# Altium footprint library Smd.PcbLib: 15 footprints
Each footprint in its own frame and in the unit in brackets; x right, y up, seen from the top. Pads: shape width x height; smd on the part's side, far side on the other; paste and mask are expansions set on the pad; w line width, h text height; cw(c..) or ccw(c..) is an arc to the next point about the centre after c.
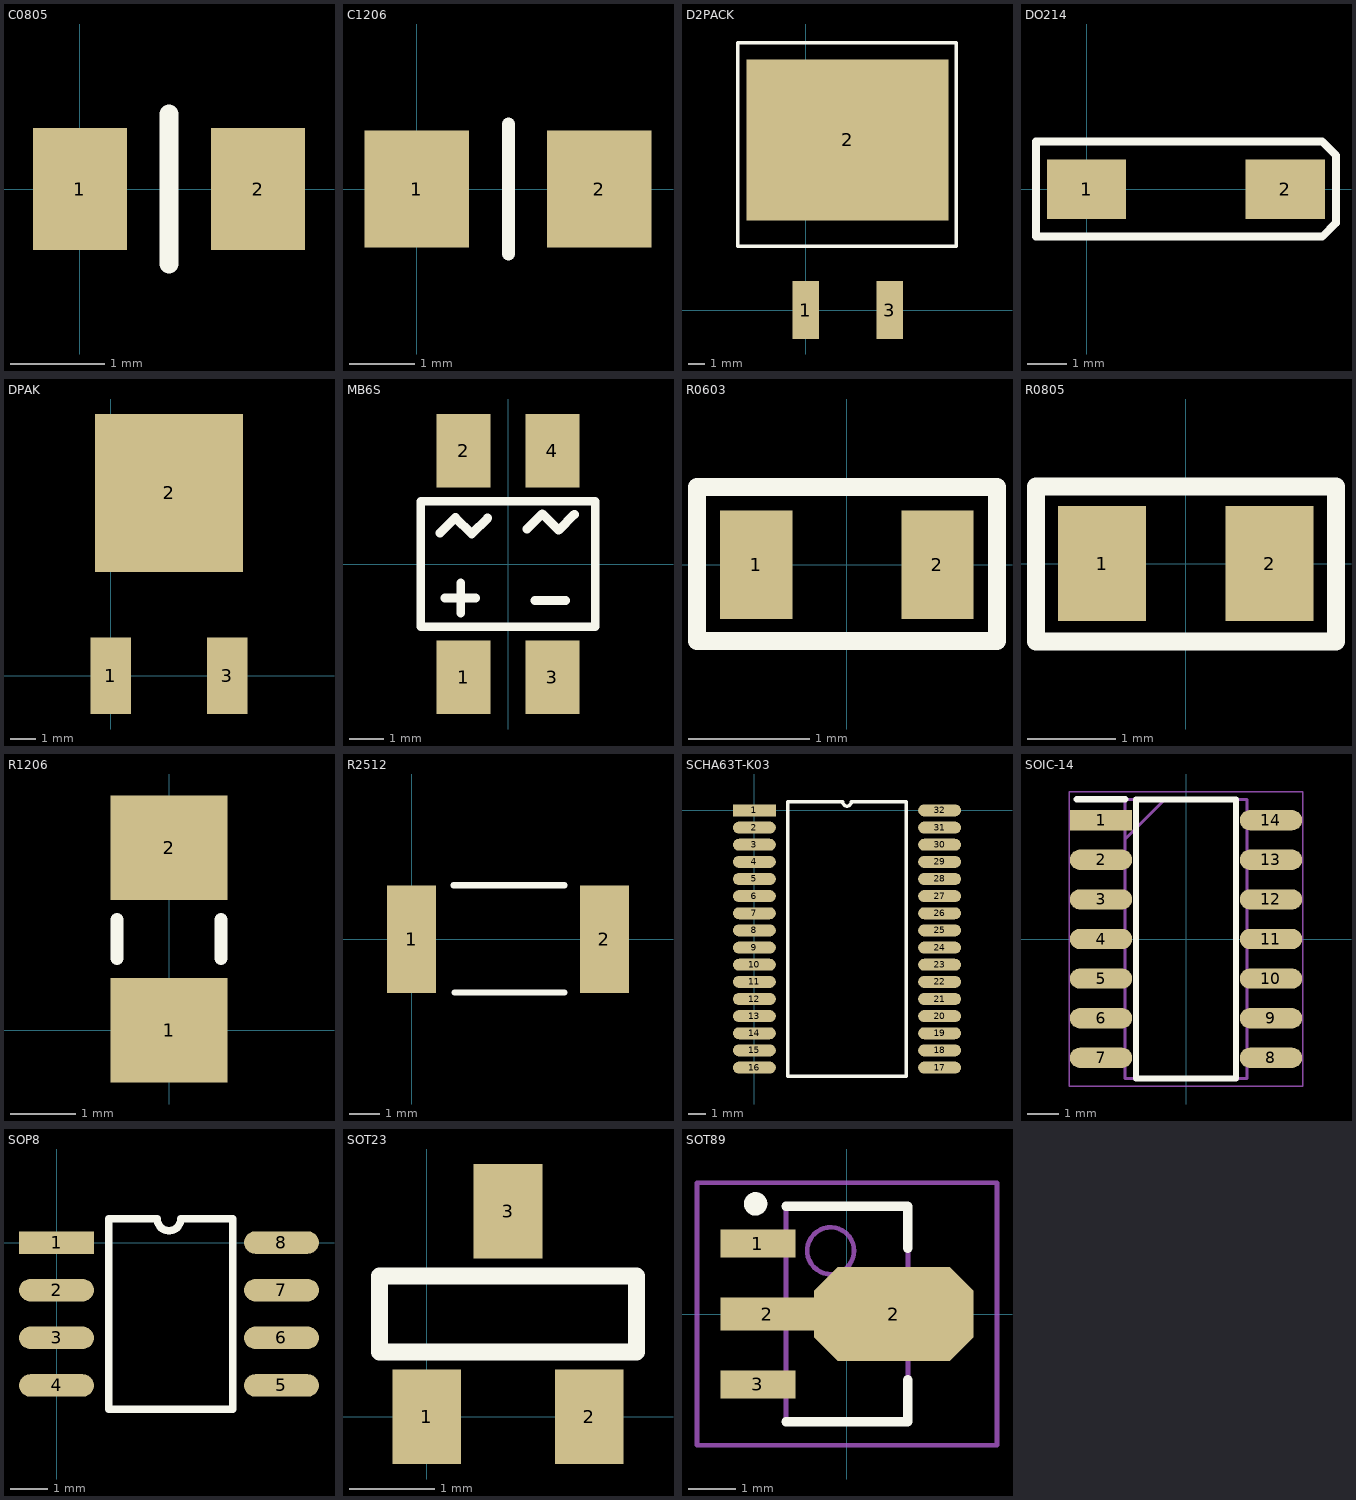
[diagram p0: the footprints below, top view; thin cyan lines are the x and y axes]

## C0805 [mm]
pads (2):
  rect 1x1.3 smd: 1(0,0) 2(1.9,0)
Top Overlay:
  lines w0.2: 0.95,-0.8 0.95,0.8

## C1206 [mm]
pads (2):
  rect 1.6x1.8 smd: 1(0,0) 2(2.8,0)
Top Overlay:
  lines w0.2: 1.404,-0.997 1.404,0.998

## D2PACK [mm]
pads (3):
  rect 1.6x3.5 smd: 1(0,0) 3(5.08,0)
  rect 12.2x9.75 smd: 2(2.54,10.275)
Top Overlay:
  lines w0.2: -4.095,3.854 -4.095,16.155 9.094,16.155 9.094,3.854 -4.095,3.854

## DO214 [mm]
pads (2):
  rect 2x1.5 smd: 1(0,0) 2(5,0)
Top Overlay:
  lines w0.2: -1.272,-1.193 5.935,-1.193 6.282,-0.845 6.282,0.856 5.93,1.207 -1.272,1.207 -1.272,-1.193

## DPAK [mm]
pads (3):
  rect 1.6x3 smd: 1(0,0) 3(4.572,0)
  rect 5.8x6.2 smd: 2(2.286,7.18)

## MB6S [mm]
pads (4):
  rect 1.55x2.1 smd: 1(-1.27,-3.25) 2(-1.27,3.25) 3(1.27,-3.25) 4(1.27,3.25)
Top Overlay:
  lines w0.254: -1.945,0.893 -1.507,1.331 -1.038,0.862 -0.584,1.316 ; -1.808,-0.97 -0.935,-0.97 ; -1.355,-1.408 -1.355,-0.536 ; 0.543,0.999 0.981,1.437 1.45,0.968 1.904,1.421 ; 0.778,-1.046 1.651,-1.046 ; -2.5,-1.8 -2.5,1.8 2.5,1.8 2.5,-1.8 -2.5,-1.8

## R0603 [mm]
pads (2):
  rect 0.6x0.9 smd: 1(-0.75,0) 2(0.75,0)
Top Overlay:
  lines w0.15: -1.24,-0.632 1.242,-0.632 1.242,0.644 -1.24,0.644 -1.24,-0.632

## R0805 [mm]
pads (2):
  rect 1x1.3 smd: 1(-0.95,0) 2(0.95,0)
Top Overlay:
  lines w0.2: -1.699,-0.884 1.704,-0.884 1.704,0.874 -1.699,0.874 -1.699,-0.884

## R1206 [mm]
pads (2):
  rect 1.8x1.6 smd: 1(0,0) 2(0,2.8)
Top Overlay:
  lines w0.2: -0.8,1.1 -0.8,1.7 ; 0.8,1.1 0.8,1.7

## R2512 [mm]
pads (2):
  rect 1.6x3.5 smd: 1(0,0) 2(6.3,0)
Top Overlay:
  lines w0.2: 1.374,1.762 5,1.762 ; 1.406,-1.738 5,-1.738

## SCHA63T-K03 [mm]
pads (32):
  rect 2.5x0.7 smd: 1(0,0)
  oval 2.5x0.7 smd: 2(0,-1) 3(0,-2) 4(0,-3) 5(0,-4) 6(0,-5) 7(0,-6) 8(0,-7) 9(0,-8) 10(0,-9) 11(0,-10) 12(0,-11) 13(0,-12) 14(0,-13) 15(0,-14) 16(0,-15) 17(10.8,-15) 18(10.8,-14) 19(10.8,-13) 20(10.8,-12) 21(10.8,-11) 22(10.8,-10) 23(10.8,-9) 24(10.8,-8) 25(10.8,-7) 26(10.8,-6) 27(10.8,-5) 28(10.8,-4) 29(10.8,-3) 30(10.8,-2) 31(10.8,-1) 32(10.8,0)
Top Overlay:
  lines w0.2: 1.935,-15.5 8.865,-15.5 8.865,0.5 5.65,0.5 cw(c5.4,0.5) 5.15,0.5 1.935,0.5 1.935,-15.5

## SOIC-14 [mm]
pads (14):
  rect 2x0.65 smd: 1(-2.725,3.81)
  oval 2x0.65 smd: 2(-2.725,2.54) 3(-2.725,1.27) 4(-2.725,0) 5(-2.725,-1.27) 6(-2.725,-2.54) 7(-2.725,-3.81) 8(2.725,-3.81) 9(2.725,-2.54) 10(2.725,-1.27) 11(2.725,0) 12(2.725,1.27) 13(2.725,2.54) 14(2.725,3.81)
Top Overlay:
  lines w0.2: -3.5,4.485 -1.95,4.485 ; -1.6,-4.475 -1.6,4.475 1.6,4.475 1.6,-4.475 -1.6,-4.475
Mechanical 13:
  lines w0.1: -1.95,3.205 -0.68,4.475 ; -1.95,-4.475 -1.95,4.475 1.95,4.475 1.95,-4.475 -1.95,-4.475
Mechanical 15:
  lines w0.05: -3.75,-4.725 -3.75,4.725 3.75,4.725 3.75,-4.725 -3.75,-4.725
3D body "74HCT04D.stp": height 1.75, standoff 0, extent -3,-4.475 3,4.475

## SOP8 [mm]
pads (8):
  rect 2x0.6 smd: 1(0,0)
  oval 2x0.6 smd: 2(0,-1.27) 3(0,-2.54) 4(0,-3.81) 5(6,-3.81) 6(6,-2.54) 7(6,-1.27) 8(6,0)
Top Overlay:
  lines w0.2: 1.397,-4.445 1.397,0.635 2.682,0.635 ccw(c3,0.635) 3.317,0.635 4.699,0.635 4.699,-4.445 1.397,-4.445

## SOT23 [mm]
pads (3):
  rect 0.8x1.1 smd: 1(0,0) 2(1.9,0) 3(0.95,2.4)
Top Overlay:
  lines w0.2: -0.55,0.757 -0.55,1.643 2.45,1.643 2.45,0.757 -0.55,0.757

## SOT89 [mm] "SOT89, 3-Leads, Body 4.5x2.4 mm, Pitch 1.5mm, Lead Span 4.1mm, IPC Low Density"
height 1.6
pads (4):
  rect 1.6x0.6 smd: 1(-1.9,1.5) 3(-1.9,-1.5)
  rect 2x0.7 smd: 2(-1.7,0)
  oct 3.4x2 smd: 2(1,0)
Top Overlay:
  circle w0.25: c-1.95,2.35 r0.125
  lines w0.2: -1.3,-2.3 1.3,-2.3 1.3,-1.4 ; -1.3,2.3 1.3,2.3 1.3,1.4
Mechanical 13:
  circle w0.1: c-0.35,1.35 r0.5
  lines w0.1: -1.3,-2.3 -1.3,2.3 1.3,2.3 1.3,-2.3 -1.3,-2.3
Mechanical 15:
  lines w0.1: -0.5,0 0.5,0 ; 0,-0.5 0,0.5 ; -3.2,-2.8 -3.2,2.8 3.2,2.8 3.2,-2.8 -3.2,-2.8
3D body: height 1.6, standoff 0, extent -1.3,-2.3 1.3,2.3